# Altium footprint library CONN_TBLOCK_7P62.PcbLib: 76 footprints (part 4 of 5)
Each footprint in its own frame and in the unit in brackets; x right, y up, seen from the top. Pads: shape width x height; smd on the part's side, far side on the other; paste and mask are expansions set on the pad; w line width, h text height; cw(c..) or ccw(c..) is an arc to the next point about the centre after c.
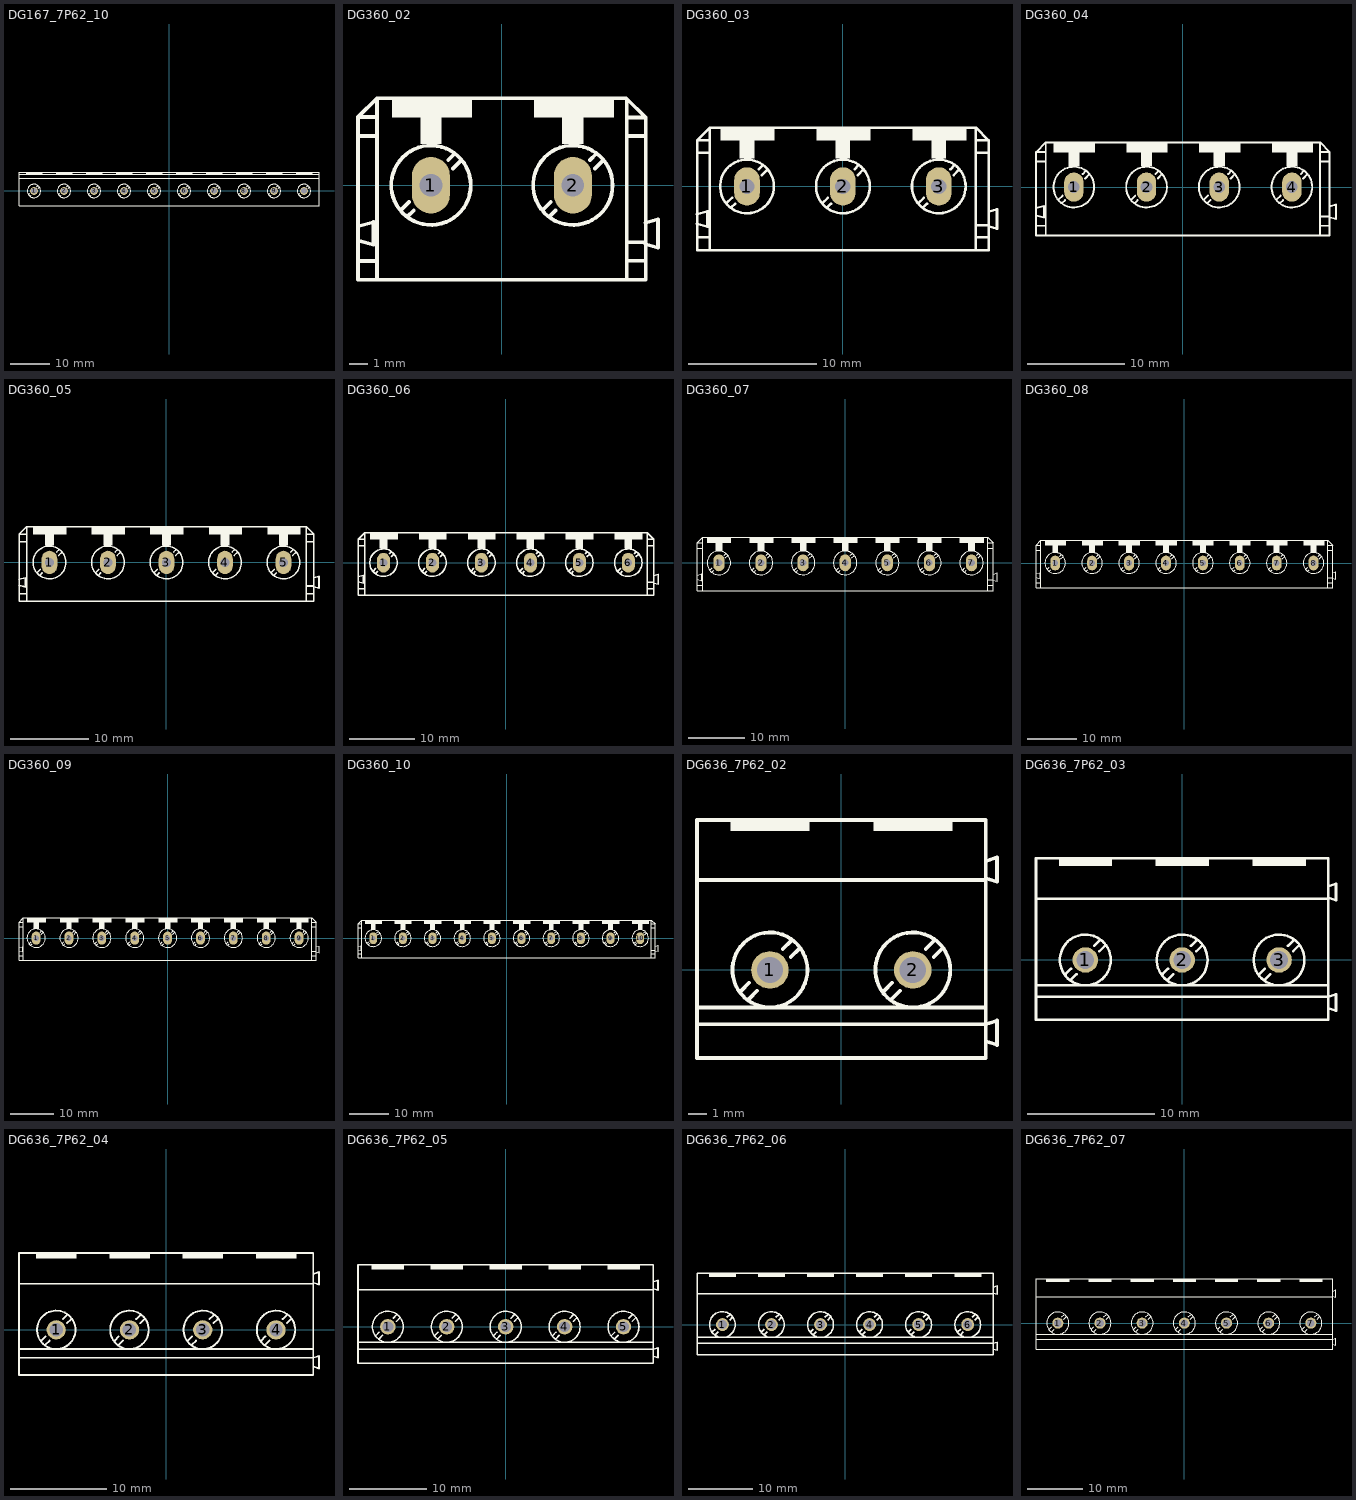
[diagram p3: the footprints below, top view; thin cyan lines are the x and y axes]

## DG167_7P62_10 [mm] "Terminal Screw, pitch 7.62mm, H 13.7mm"
height 13.7
pads (10):
  round 2 / inner round 2 / far side rect 2.2x3 hole 1.4: 1(-34.29,0)
  round 2 / inner round 2 / far side oval 2.2x3 hole 1.4: 2(-26.67,0) 3(-19.05,0) 4(-11.43,0) 5(-3.81,0) 6(3.81,0) 7(11.43,0) 8(19.05,0) 9(26.67,0) 10(34.29,0)
Top Overlay:
  circle w0.2: c-34.29,0 r1.7
  circle w0.2: c-26.67,0 r1.7
  circle w0.2: c-19.05,0 r1.7
  circle w0.2: c-11.43,0 r1.7
  circle w0.2: c-3.81,0 r1.7
  circle w0.2: c3.81,0 r1.7
  circle w0.2: c11.43,0 r1.7
  circle w0.2: c19.05,0 r1.7
  circle w0.2: c26.67,0 r1.7
  circle w0.2: c34.29,0 r1.7
  rectangle: -36.38,4.2 -32.18,4.8
  rectangle: -28.76,4.2 -24.56,4.8
  rectangle: -21.14,4.2 -16.94,4.8
  rectangle: -13.52,4.2 -9.32,4.8
  rectangle: -5.9,4.2 -1.7,4.8
  rectangle: 1.72,4.2 5.92,4.8
  rectangle: 9.34,4.2 13.54,4.8
  rectangle: 16.96,4.2 21.16,4.8
  rectangle: 24.58,4.2 28.78,4.8
  rectangle: 32.2,4.2 36.4,4.8
  lines w0.2: -38.1,3.2 38.1,3.2 ; -38.1,4.3 38.1,4.3 ; -35.634,-0.919 -35.351,-0.636 ; -35.209,-1.344 -34.926,-1.061 ; -33.654,1.061 -33.371,1.343 ; -33.229,0.636 -32.947,0.919 ; -28.014,-0.919 -27.731,-0.636 ; -27.589,-1.344 -27.306,-1.061 ; -26.034,1.061 -25.751,1.343 ; -25.609,0.636 -25.327,0.919 ; -20.394,-0.919 -20.111,-0.636 ; -19.969,-1.344 -19.686,-1.061 ; -18.414,1.061 -18.131,1.343 ; -17.989,0.636 -17.707,0.919 ; -12.774,-0.919 -12.491,-0.636 ; -12.349,-1.344 -12.066,-1.061 ; -10.794,1.061 -10.511,1.343 ; -10.369,0.636 -10.087,0.919 ; -5.154,-0.919 -4.871,-0.636 ; -4.729,-1.344 -4.446,-1.061 ; -3.174,1.061 -2.891,1.343 ; -2.749,0.636 -2.467,0.919 ; 2.466,-0.919 2.749,-0.636 ; 2.891,-1.344 3.174,-1.061 ; 4.446,1.061 4.729,1.343 ; 4.871,0.636 5.153,0.919 ; 10.086,-0.919 10.369,-0.636 ; 10.511,-1.344 10.794,-1.061 ; 12.066,1.061 12.349,1.343 ; 12.491,0.636 12.773,0.919 ; 17.706,-0.919 17.989,-0.636 ; 18.131,-1.344 18.414,-1.061 ; 19.686,1.061 19.969,1.343 ; 20.111,0.636 20.393,0.919 ; 25.326,-0.919 25.609,-0.636 ; 25.751,-1.344 26.034,-1.061 ; 27.306,1.061 27.589,1.343 ; 27.731,0.636 28.013,0.919 ; 32.946,-0.919 33.229,-0.636 ; 33.371,-1.344 33.654,-1.061 ; 34.926,1.061 35.209,1.343 ; 35.351,0.636 35.633,0.919 ; -38.1,-3.8 38.1,-3.8 38.1,4.8 -38.1,4.8 -38.1,-3.8
3D body "DG167-7.62-10P-12-00AH.STEP": height 13.7, standoff -4.5, extent -38.1,-3.8 38.1,4.8

## DG360_02 [mm] "Terminal B screw, Pitch 7.5mm, H 12.7mm"
height 12.7
pads (2):
  oval 2x3 hole 1.2: 1(-3.75,0) 2(3.75,0)
Top Overlay:
  circle w0.2: c3.75,0 r2.1
  circle w0.2: c-3.75,0 r2.1
  region: -4.3,3.6 -4.3,2.2 -3.2,2.2 -3.2,3.6
  region: -5.8,4.6 -5.8,3.6 -1.6,3.6 -1.6,4.6
  region: 3.2,3.6 3.2,2.2 4.3,2.2 4.3,3.6
  region: 1.7,4.6 1.7,3.6 5.9,3.6 5.9,4.6
  lines w0.2: -7.607,-2.925 -6.786,-3.149 -6.786,-1.951 -7.607,-2.175 ; -7.6,-4 -6.6,-4 ; -7.6,2.6 -6.6,2.6 ; -6.6,3.6 -7.6,3.6 ; -5.341,-1.308 -4.917,-0.884 ; -4.987,-1.662 -4.663,-1.337 ; -2.837,1.337 -2.513,1.662 ; -2.583,0.884 -2.159,1.308 ; 2.159,-1.308 2.583,-0.884 ; 2.513,-1.662 2.837,-1.337 ; 4.663,1.337 4.987,1.662 ; 4.917,0.884 5.341,1.308 ; 6.522,4.6 -6.6,4.6 ; 6.572,4.6 7.6,3.572 ; 6.6,-5 6.6,4.572 ; 6.602,-3.99 7.602,-3.99 ; 6.628,3.572 7.6,3.572 ; 6.65,-3.018 7.55,-3.018 ; 6.65,2.6 7.55,2.6 ; 7.55,-5 6.55,-5 -6.6,-5 ; 7.596,-3.113 8.25,-3.3 8.25,-1.8 7.596,-1.987 ; 7.6,-5 7.6,3.572 ; -7.6,3.6 -6.6,4.6 ; -7.6,3.6 -7.6,-5 -6.6,-5 ; -6.6,-5 -6.6,4.6
3D body "DG360-7.5-02P-12-00AH.STEP": height 12.7, standoff -4.6, extent -7.529,-4.953 8.171,4.547

## DG360_03 [mm] "Terminal B screw, Pitch 7.5mm, H 12.7mm"
height 15
pads (3):
  oval 2x3 hole 1.2: 1(-7.5,0) 2(0,0) 3(7.5,0)
Top Overlay:
  circle w0.2: c-7.5,0 r2.1
  circle w0.2: c0,0 r2.1
  circle w0.2: c7.5,0 r2.1
  region: -9.55,4.6 -9.55,3.6 -5.35,3.6 -5.35,4.6
  region: -8.05,3.6 -8.05,2.2 -6.95,2.2 -6.95,3.6
  region: 5.45,4.6 5.45,3.6 9.65,3.6 9.65,4.6
  region: 6.95,3.6 6.95,2.2 8.05,2.2 8.05,3.6
  region: -2.05,4.6 -2.05,3.6 2.15,3.6 2.15,4.6
  region: -0.55,3.6 -0.55,2.2 0.55,2.2 0.55,3.6
  lines w0.2: -11.407,-2.925 -10.586,-3.149 -10.586,-1.951 -11.407,-2.175 ; -11.402,-3.99 -10.402,-3.99 ; -11.4,2.628 -10.4,2.628 ; -10.4,3.6 -11.4,3.6 ; -9.091,-1.308 -8.667,-0.884 ; -8.737,-1.662 -8.413,-1.337 ; -6.587,1.337 -6.263,1.662 ; -6.333,0.884 -5.909,1.308 ; -1.591,-1.308 -1.167,-0.884 ; -1.237,-1.662 -0.913,-1.337 ; 0.913,1.337 1.237,1.662 ; 1.167,0.884 1.591,1.308 ; 5.909,-1.308 6.333,-0.884 ; 6.263,-1.662 6.587,-1.337 ; 8.413,1.337 8.737,1.662 ; 8.667,0.884 9.091,1.308 ; 10.4,2.628 11.4,2.628 ; 10.4,3.6 11.4,3.6 ; 10.402,-3.99 11.402,-3.99 ; 10.45,-3.018 11.35,-3.018 ; 11.396,-3.113 12.05,-3.3 12.05,-1.8 11.396,-1.987 ; -11.4,3.6 -11.4,-5 -10.4,-5 ; -11.4,3.6 -10.4,4.6 ; -10.4,-5 10.4,-5 ; -10.4,-5 -10.4,4.6 ; -10.4,4.6 10.4,4.6 ; 10.4,-5 11.4,-5 11.4,3.6 ; 10.4,-5 10.4,4.6 ; 10.4,4.6 11.4,3.6
3D body "DG360-7.5-03P-12-00AH.STEP": height 12.7, standoff -4.6, extent -11.212,-4.928 11.988,4.572

## DG360_04 [mm] "Terminal B screw, Pitch 7.5mm, H 12.7mm"
height 15
pads (4):
  oval 2x3 hole 1.2: 1(-11.25,0) 2(-3.75,0) 3(3.75,0) 4(11.25,0)
Top Overlay:
  circle w0.2: c11.25,0 r2.1
  circle w0.2: c3.75,0 r2.1
  circle w0.2: c-3.75,0 r2.1
  circle w0.2: c-11.25,0 r2.1
  region: 3.2,3.6 3.2,2.2 4.3,2.2 4.3,3.6
  region: 1.7,4.6 1.7,3.6 5.9,3.6 5.9,4.6
  region: 10.7,3.6 10.7,2.2 11.8,2.2 11.8,3.6
  region: 9.2,4.6 9.2,3.6 13.4,3.6 13.4,4.6
  region: -11.8,3.6 -11.8,2.2 -10.7,2.2 -10.7,3.6
  region: -13.3,4.6 -13.3,3.6 -9.1,3.6 -9.1,4.6
  region: -4.3,3.6 -4.3,2.2 -3.2,2.2 -3.2,3.6
  region: -5.8,4.6 -5.8,3.6 -1.6,3.6 -1.6,4.6
  lines w0.2: -15.157,-2.925 -14.336,-3.149 -14.336,-1.951 -15.157,-2.175 ; -15.152,-3.99 -14.152,-3.99 ; -15.15,2.628 -14.15,2.628 ; -14.15,3.6 -15.15,3.6 ; -12.841,-1.308 -12.417,-0.884 ; -12.487,-1.662 -12.163,-1.337 ; -10.337,1.337 -10.013,1.662 ; -10.083,0.884 -9.659,1.308 ; -5.341,-1.308 -4.917,-0.884 ; -4.987,-1.662 -4.663,-1.337 ; -2.837,1.337 -2.513,1.662 ; -2.583,0.884 -2.159,1.308 ; 2.159,-1.308 2.583,-0.884 ; 2.513,-1.662 2.837,-1.337 ; 4.663,1.337 4.987,1.662 ; 4.917,0.884 5.341,1.308 ; 9.659,-1.308 10.083,-0.884 ; 10.013,-1.662 10.337,-1.337 ; 12.163,1.337 12.487,1.662 ; 12.417,0.884 12.841,1.308 ; 14.15,2.628 15.15,2.628 ; 14.15,3.6 15.15,3.6 ; 14.152,-3.99 15.152,-3.99 ; 14.2,-3.018 15.1,-3.018 ; 15.146,-3.113 15.8,-3.3 15.8,-1.8 15.146,-1.987 ; -15.15,3.6 -14.15,4.6 ; -15.15,3.6 -15.15,-5 -14.15,-5 ; -14.15,-5 -14.15,4.6 ; -14.15,-5 14.15,-5 ; -14.15,4.6 14.15,4.6 ; 14.15,-5 14.15,4.6 ; 14.15,-5 15.15,-5 15.15,3.6 ; 14.15,4.6 15.15,3.6
3D body "DG360-7.5-04P-12-00AH.STEP": height 12.7, standoff -4.6, extent -14.94,-5.08 15.76,4.42

## DG360_05 [mm] "Terminal B screw, Pitch 7.5mm, H 12.7mm"
height 15
pads (5):
  oval 2x3 hole 1.2: 1(-15,0) 2(-7.5,0) 3(0,0) 4(7.5,0) 5(15,0)
Top Overlay:
  circle w0.2: c15,0 r2.1
  circle w0.2: c7.5,0 r2.1
  circle w0.2: c0,0 r2.1
  circle w0.2: c-7.5,0 r2.1
  circle w0.2: c-15,0 r2.1
  region: 6.95,3.6 6.95,2.2 8.05,2.2 8.05,3.6
  region: 5.45,4.6 5.45,3.6 9.65,3.6 9.65,4.6
  region: 14.45,3.6 14.45,2.2 15.55,2.2 15.55,3.6
  region: 12.95,4.6 12.95,3.6 17.15,3.6 17.15,4.6
  region: -8.05,3.6 -8.05,2.2 -6.95,2.2 -6.95,3.6
  region: -9.55,4.6 -9.55,3.6 -5.35,3.6 -5.35,4.6
  region: -0.55,3.6 -0.55,2.2 0.55,2.2 0.55,3.6
  region: -2.05,4.6 -2.05,3.6 2.15,3.6 2.15,4.6
  region: -15.55,3.6 -15.55,2.2 -14.45,2.2 -14.45,3.6
  region: -17.05,4.6 -17.05,3.6 -12.85,3.6 -12.85,4.6
  lines w0.2: -18.907,-2.925 -18.086,-3.149 -18.086,-1.951 -18.907,-2.175 ; -18.902,-3.99 -17.902,-3.99 ; -18.9,2.628 -17.9,2.628 ; -17.9,3.6 -18.9,3.6 ; -16.591,-1.308 -16.167,-0.884 ; -16.237,-1.662 -15.913,-1.337 ; -14.087,1.337 -13.763,1.662 ; -13.833,0.884 -13.409,1.308 ; -9.091,-1.308 -8.667,-0.884 ; -8.737,-1.662 -8.413,-1.337 ; -6.587,1.337 -6.263,1.662 ; -6.333,0.884 -5.909,1.308 ; -1.591,-1.308 -1.167,-0.884 ; -1.237,-1.662 -0.913,-1.337 ; 0.913,1.337 1.237,1.662 ; 1.167,0.884 1.591,1.308 ; 5.909,-1.308 6.333,-0.884 ; 6.263,-1.662 6.587,-1.337 ; 8.413,1.337 8.737,1.662 ; 8.667,0.884 9.091,1.308 ; 13.409,-1.308 13.833,-0.884 ; 13.763,-1.662 14.087,-1.337 ; 15.913,1.337 16.237,1.662 ; 16.167,0.884 16.591,1.308 ; 17.9,2.628 18.9,2.628 ; 17.9,3.6 18.9,3.6 ; 17.902,-3.99 18.902,-3.99 ; 17.95,-3.018 18.85,-3.018 ; 18.896,-3.113 19.55,-3.3 19.55,-1.8 18.896,-1.987 ; -18.9,3.6 -17.9,4.6 ; -18.9,3.6 -18.9,-5 -17.9,-5 ; -17.9,-5 -17.9,4.6 ; -17.9,-5 17.9,-5 ; -17.9,4.6 17.9,4.6 ; 17.9,-5 17.9,4.6 ; 17.9,-5 18.9,-5 18.9,3.6 ; 17.9,4.6 18.9,3.6
3D body "DG360-7.5-05P-12-00AH.STEP": height 12.7, standoff -4.6, extent -18.832,-4.928 19.368,4.572

## DG360_06 [mm] "Terminal B screw, Pitch 7.5mm, H 12.7mm"
height 15
pads (6):
  oval 2x3 hole 1.2: 1(-18.75,0) 2(-11.25,0) 3(-3.75,0) 4(3.75,0) 5(11.25,0) 6(18.75,0)
Top Overlay:
  circle w0.2: c18.75,0 r2.1
  circle w0.2: c11.25,0 r2.1
  circle w0.2: c3.75,0 r2.1
  circle w0.2: c-3.75,0 r2.1
  circle w0.2: c-11.25,0 r2.1
  circle w0.2: c-18.75,0 r2.1
  region: 10.7,3.6 10.7,2.2 11.8,2.2 11.8,3.6
  region: 9.2,4.6 9.2,3.6 13.4,3.6 13.4,4.6
  region: 18.2,3.6 18.2,2.2 19.3,2.2 19.3,3.6
  region: 16.7,4.6 16.7,3.6 20.9,3.6 20.9,4.6
  region: -4.3,3.6 -4.3,2.2 -3.2,2.2 -3.2,3.6
  region: -5.8,4.6 -5.8,3.6 -1.6,3.6 -1.6,4.6
  region: 3.2,3.6 3.2,2.2 4.3,2.2 4.3,3.6
  region: 1.7,4.6 1.7,3.6 5.9,3.6 5.9,4.6
  region: -19.3,3.6 -19.3,2.2 -18.2,2.2 -18.2,3.6
  region: -20.8,4.6 -20.8,3.6 -16.6,3.6 -16.6,4.6
  region: -11.8,3.6 -11.8,2.2 -10.7,2.2 -10.7,3.6
  region: -13.3,4.6 -13.3,3.6 -9.1,3.6 -9.1,4.6
  lines w0.2: -22.657,-2.925 -21.836,-3.149 -21.836,-1.951 -22.657,-2.175 ; -22.652,-3.99 -21.652,-3.99 ; -22.65,2.628 -21.65,2.628 ; -21.65,3.6 -22.65,3.6 ; -20.341,-1.308 -19.917,-0.884 ; -19.987,-1.662 -19.663,-1.337 ; -17.837,1.337 -17.513,1.662 ; -17.583,0.884 -17.159,1.308 ; -12.841,-1.308 -12.417,-0.884 ; -12.487,-1.662 -12.163,-1.337 ; -10.337,1.337 -10.013,1.662 ; -10.083,0.884 -9.659,1.308 ; -5.341,-1.308 -4.917,-0.884 ; -4.987,-1.662 -4.663,-1.337 ; -2.837,1.337 -2.513,1.662 ; -2.583,0.884 -2.159,1.308 ; 2.159,-1.308 2.583,-0.884 ; 2.513,-1.662 2.837,-1.337 ; 4.663,1.337 4.987,1.662 ; 4.917,0.884 5.341,1.308 ; 9.659,-1.308 10.083,-0.884 ; 10.013,-1.662 10.337,-1.337 ; 12.163,1.337 12.487,1.662 ; 12.417,0.884 12.841,1.308 ; 17.159,-1.308 17.583,-0.884 ; 17.513,-1.662 17.837,-1.337 ; 19.663,1.337 19.987,1.662 ; 19.917,0.884 20.341,1.308 ; 21.65,2.628 22.65,2.628 ; 21.65,3.6 22.65,3.6 ; 21.652,-3.99 22.652,-3.99 ; 21.7,-3.018 22.6,-3.018 ; 22.646,-3.113 23.3,-3.3 23.3,-1.8 22.646,-1.987 ; -22.65,3.6 -21.65,4.6 ; -22.65,3.6 -22.65,-5 -21.65,-5 ; -21.65,-5 -21.65,4.6 ; -21.65,-5 21.65,-5 ; -21.65,4.6 21.65,4.6 ; 21.65,-5 21.65,4.6 ; 21.65,-5 22.65,-5 22.65,3.6 ; 21.65,4.6 22.65,3.6
3D body "DG360-7.5-06P-12-00AH.STEP": height 12.7, standoff -4.6, extent -22.515,-5.055 23.185,4.445

## DG360_07 [mm] "Terminal B screw, Pitch 7.5mm, H 12.7mm"
height 15
pads (7):
  oval 2x3 hole 1.2: 1(-22.5,0) 2(-15,0) 3(-7.5,0) 4(0,0) 5(7.5,0) 6(15,0) 7(22.5,0)
Top Overlay:
  circle w0.2: c-22.5,0 r2.1
  circle w0.2: c-15,0 r2.1
  circle w0.2: c-7.5,0 r2.1
  circle w0.2: c0,0 r2.1
  circle w0.2: c7.5,0 r2.1
  circle w0.2: c15,0 r2.1
  circle w0.2: c22.5,0 r2.1
  region: -24.55,4.6 -24.55,3.6 -20.35,3.6 -20.35,4.6
  region: -23.05,3.6 -23.05,2.2 -21.95,2.2 -21.95,3.6
  region: -9.55,4.6 -9.55,3.6 -5.35,3.6 -5.35,4.6
  region: -8.05,3.6 -8.05,2.2 -6.95,2.2 -6.95,3.6
  region: -17.05,4.6 -17.05,3.6 -12.85,3.6 -12.85,4.6
  region: -15.55,3.6 -15.55,2.2 -14.45,2.2 -14.45,3.6
  region: 5.45,4.6 5.45,3.6 9.65,3.6 9.65,4.6
  region: 6.95,3.6 6.95,2.2 8.05,2.2 8.05,3.6
  region: -2.05,4.6 -2.05,3.6 2.15,3.6 2.15,4.6
  region: -0.55,3.6 -0.55,2.2 0.55,2.2 0.55,3.6
  region: 20.45,4.6 20.45,3.6 24.65,3.6 24.65,4.6
  region: 21.95,3.6 21.95,2.2 23.05,2.2 23.05,3.6
  region: 12.95,4.6 12.95,3.6 17.15,3.6 17.15,4.6
  region: 14.45,3.6 14.45,2.2 15.55,2.2 15.55,3.6
  lines w0.2: -26.407,-2.925 -25.586,-3.149 -25.586,-1.951 -26.407,-2.175 ; -26.402,-3.99 -25.402,-3.99 ; -26.4,2.628 -25.4,2.628 ; -25.4,3.6 -26.4,3.6 ; -24.091,-1.308 -23.667,-0.884 ; -23.737,-1.662 -23.413,-1.337 ; -21.587,1.337 -21.263,1.662 ; -21.333,0.884 -20.909,1.308 ; -16.591,-1.308 -16.167,-0.884 ; -16.237,-1.662 -15.913,-1.337 ; -14.087,1.337 -13.763,1.662 ; -13.833,0.884 -13.409,1.308 ; -9.091,-1.308 -8.667,-0.884 ; -8.737,-1.662 -8.413,-1.337 ; -6.587,1.337 -6.263,1.662 ; -6.333,0.884 -5.909,1.308 ; -1.591,-1.308 -1.167,-0.884 ; -1.237,-1.662 -0.913,-1.337 ; 0.913,1.337 1.237,1.662 ; 1.167,0.884 1.591,1.308 ; 5.909,-1.308 6.333,-0.884 ; 6.263,-1.662 6.587,-1.337 ; 8.413,1.337 8.737,1.662 ; 8.667,0.884 9.091,1.308 ; 13.409,-1.308 13.833,-0.884 ; 13.763,-1.662 14.087,-1.337 ; 15.913,1.337 16.237,1.662 ; 16.167,0.884 16.591,1.308 ; 20.909,-1.308 21.333,-0.884 ; 21.263,-1.662 21.587,-1.337 ; 23.413,1.337 23.737,1.662 ; 23.667,0.884 24.091,1.308 ; 25.4,2.628 26.4,2.628 ; 25.4,3.6 26.4,3.6 ; 25.402,-3.99 26.402,-3.99 ; 25.45,-3.018 26.35,-3.018 ; 26.396,-3.113 27.05,-3.3 27.05,-1.8 26.396,-1.987 ; -26.4,3.6 -26.4,-5 -25.4,-5 ; -26.4,3.6 -25.4,4.6 ; -25.4,-5 25.4,-5 ; -25.4,-5 -25.4,4.6 ; -25.4,4.6 25.4,4.6 ; 25.4,-5 26.4,-5 26.4,3.6 ; 25.4,-5 25.4,4.6 ; 25.4,4.6 26.4,3.6
3D body "DG360-7.5-07P-12-00AH.STEP": height 12.7, standoff -4.6, extent -26.325,-4.953 26.875,4.547

## DG360_08 [mm] "Terminal B screw, Pitch 7.5mm, H 12.7mm"
height 15
pads (8):
  oval 2x3 hole 1.2: 1(-26.25,0) 2(-18.75,0) 3(-11.25,0) 4(-3.75,0) 5(3.75,0) 6(11.25,0) 7(18.75,0) 8(26.25,0)
Top Overlay:
  circle w0.2: c-26.25,0 r2.1
  circle w0.2: c-18.75,0 r2.1
  circle w0.2: c-11.25,0 r2.1
  circle w0.2: c-3.75,0 r2.1
  circle w0.2: c3.75,0 r2.1
  circle w0.2: c11.25,0 r2.1
  circle w0.2: c18.75,0 r2.1
  circle w0.2: c26.25,0 r2.1
  region: -20.8,4.6 -20.8,3.6 -16.6,3.6 -16.6,4.6
  region: -19.3,3.6 -19.3,2.2 -18.2,2.2 -18.2,3.6
  region: -28.3,4.6 -28.3,3.6 -24.1,3.6 -24.1,4.6
  region: -26.8,3.6 -26.8,2.2 -25.7,2.2 -25.7,3.6
  region: -5.8,4.6 -5.8,3.6 -1.6,3.6 -1.6,4.6
  region: -4.3,3.6 -4.3,2.2 -3.2,2.2 -3.2,3.6
  region: -13.3,4.6 -13.3,3.6 -9.1,3.6 -9.1,4.6
  region: -11.8,3.6 -11.8,2.2 -10.7,2.2 -10.7,3.6
  region: 9.2,4.6 9.2,3.6 13.4,3.6 13.4,4.6
  region: 10.7,3.6 10.7,2.2 11.8,2.2 11.8,3.6
  region: 1.7,4.6 1.7,3.6 5.9,3.6 5.9,4.6
  region: 3.2,3.6 3.2,2.2 4.3,2.2 4.3,3.6
  region: 24.2,4.6 24.2,3.6 28.4,3.6 28.4,4.6
  region: 25.7,3.6 25.7,2.2 26.8,2.2 26.8,3.6
  region: 16.7,4.6 16.7,3.6 20.9,3.6 20.9,4.6
  region: 18.2,3.6 18.2,2.2 19.3,2.2 19.3,3.6
  lines w0.2: -30.157,-2.925 -29.336,-3.149 -29.336,-1.951 -30.157,-2.175 ; -30.152,-3.99 -29.152,-3.99 ; -30.15,2.628 -29.15,2.628 ; -29.15,3.6 -30.15,3.6 ; -27.841,-1.308 -27.417,-0.884 ; -27.487,-1.662 -27.163,-1.337 ; -25.337,1.337 -25.013,1.662 ; -25.083,0.884 -24.659,1.308 ; -20.341,-1.308 -19.917,-0.884 ; -19.987,-1.662 -19.663,-1.337 ; -17.837,1.337 -17.513,1.662 ; -17.583,0.884 -17.159,1.308 ; -12.841,-1.308 -12.417,-0.884 ; -12.487,-1.662 -12.163,-1.337 ; -10.337,1.337 -10.013,1.662 ; -10.083,0.884 -9.659,1.308 ; -5.341,-1.308 -4.917,-0.884 ; -4.987,-1.662 -4.663,-1.337 ; -2.837,1.337 -2.513,1.662 ; -2.583,0.884 -2.159,1.308 ; 2.159,-1.308 2.583,-0.884 ; 2.513,-1.662 2.837,-1.337 ; 4.663,1.337 4.987,1.662 ; 4.917,0.884 5.341,1.308 ; 9.659,-1.308 10.083,-0.884 ; 10.013,-1.662 10.337,-1.337 ; 12.163,1.337 12.487,1.662 ; 12.417,0.884 12.841,1.308 ; 17.159,-1.308 17.583,-0.884 ; 17.513,-1.662 17.837,-1.337 ; 19.663,1.337 19.987,1.662 ; 19.917,0.884 20.341,1.308 ; 24.659,-1.308 25.083,-0.884 ; 25.013,-1.662 25.337,-1.337 ; 27.163,1.337 27.487,1.662 ; 27.417,0.884 27.841,1.308 ; 29.15,2.628 30.15,2.628 ; 29.15,3.6 30.15,3.6 ; 29.152,-3.99 30.152,-3.99 ; 29.2,-3.018 30.1,-3.018 ; 30.146,-3.113 30.8,-3.3 30.8,-1.8 30.146,-1.987 ; -30.15,3.6 -30.15,-5 -29.15,-5 ; -30.15,3.6 -29.15,4.6 ; -29.15,-5 29.15,-5 ; -29.15,-5 -29.15,4.6 ; -29.15,4.6 29.15,4.6 ; 29.15,-5 30.15,-5 30.15,3.6 ; 29.15,-5 29.15,4.6 ; 29.15,4.6 30.15,3.6
3D body "DG360-7.5-08P-12-00AH.STEP": height 12.7, standoff -4.6, extent -30.008,-4.928 30.692,4.572

## DG360_09 [mm] "Terminal B screw, Pitch 7.5mm, H 12.7mm"
height 15
pads (9):
  oval 2x3 hole 1.2: 1(-30,0) 2(-22.5,0) 3(-15,0) 4(-7.5,0) 5(0,0) 6(7.5,0) 7(15,0) 8(22.5,0) 9(30,0)
Top Overlay:
  circle w0.2: c-30,0 r2.1
  circle w0.2: c-22.5,0 r2.1
  circle w0.2: c-15,0 r2.1
  circle w0.2: c-7.5,0 r2.1
  circle w0.2: c0,0 r2.1
  circle w0.2: c7.5,0 r2.1
  circle w0.2: c15,0 r2.1
  circle w0.2: c22.5,0 r2.1
  circle w0.2: c30,0 r2.1
  region: -32.05,4.6 -32.05,3.6 -27.85,3.6 -27.85,4.6
  region: -30.55,3.6 -30.55,2.2 -29.45,2.2 -29.45,3.6
  region: -17.05,4.6 -17.05,3.6 -12.85,3.6 -12.85,4.6
  region: -15.55,3.6 -15.55,2.2 -14.45,2.2 -14.45,3.6
  region: -24.55,4.6 -24.55,3.6 -20.35,3.6 -20.35,4.6
  region: -23.05,3.6 -23.05,2.2 -21.95,2.2 -21.95,3.6
  region: -2.05,4.6 -2.05,3.6 2.15,3.6 2.15,4.6
  region: -0.55,3.6 -0.55,2.2 0.55,2.2 0.55,3.6
  region: -9.55,4.6 -9.55,3.6 -5.35,3.6 -5.35,4.6
  region: -8.05,3.6 -8.05,2.2 -6.95,2.2 -6.95,3.6
  region: 12.95,4.6 12.95,3.6 17.15,3.6 17.15,4.6
  region: 14.45,3.6 14.45,2.2 15.55,2.2 15.55,3.6
  region: 5.45,4.6 5.45,3.6 9.65,3.6 9.65,4.6
  region: 6.95,3.6 6.95,2.2 8.05,2.2 8.05,3.6
  region: 27.95,4.6 27.95,3.6 32.15,3.6 32.15,4.6
  region: 29.45,3.6 29.45,2.2 30.55,2.2 30.55,3.6
  region: 20.45,4.6 20.45,3.6 24.65,3.6 24.65,4.6
  region: 21.95,3.6 21.95,2.2 23.05,2.2 23.05,3.6
  lines w0.2: -33.907,-2.925 -33.086,-3.149 -33.086,-1.951 -33.907,-2.175 ; -33.902,-3.99 -32.902,-3.99 ; -33.9,2.628 -32.9,2.628 ; -32.9,3.6 -33.9,3.6 ; -31.591,-1.308 -31.167,-0.884 ; -31.237,-1.662 -30.913,-1.337 ; -29.087,1.337 -28.763,1.662 ; -28.833,0.884 -28.409,1.308 ; -24.091,-1.308 -23.667,-0.884 ; -23.737,-1.662 -23.413,-1.337 ; -21.587,1.337 -21.263,1.662 ; -21.333,0.884 -20.909,1.308 ; -16.591,-1.308 -16.167,-0.884 ; -16.237,-1.662 -15.913,-1.337 ; -14.087,1.337 -13.763,1.662 ; -13.833,0.884 -13.409,1.308 ; -9.091,-1.308 -8.667,-0.884 ; -8.737,-1.662 -8.413,-1.337 ; -6.587,1.337 -6.263,1.662 ; -6.333,0.884 -5.909,1.308 ; -1.591,-1.308 -1.167,-0.884 ; -1.237,-1.662 -0.913,-1.337 ; 0.913,1.337 1.237,1.662 ; 1.167,0.884 1.591,1.308 ; 5.909,-1.308 6.333,-0.884 ; 6.263,-1.662 6.587,-1.337 ; 8.413,1.337 8.737,1.662 ; 8.667,0.884 9.091,1.308 ; 13.409,-1.308 13.833,-0.884 ; 13.763,-1.662 14.087,-1.337 ; 15.913,1.337 16.237,1.662 ; 16.167,0.884 16.591,1.308 ; 20.909,-1.308 21.333,-0.884 ; 21.263,-1.662 21.587,-1.337 ; 23.413,1.337 23.737,1.662 ; 23.667,0.884 24.091,1.308 ; 28.409,-1.308 28.833,-0.884 ; 28.763,-1.662 29.087,-1.337 ; 30.913,1.337 31.237,1.662 ; 31.167,0.884 31.591,1.308 ; 32.9,2.628 33.9,2.628 ; 32.9,3.6 33.9,3.6 ; 32.902,-3.99 33.902,-3.99 ; 32.95,-3.018 33.85,-3.018 ; 33.896,-3.113 34.55,-3.3 34.55,-1.8 33.896,-1.987 ; -33.9,3.6 -33.9,-5 -32.9,-5 ; -33.9,3.6 -32.9,4.6 ; -32.9,-5 32.9,-5 ; -32.9,-5 -32.9,4.6 ; -32.9,4.6 32.9,4.6 ; 32.9,-5 33.9,-5 33.9,3.6 ; 32.9,-5 32.9,4.6 ; 32.9,4.6 33.9,3.6
3D body "DG360-7.5-09P-12-00AH.STEP": height 12.7, standoff -4.6, extent -33.691,-4.955 34.509,4.545

## DG360_10 [mm] "Terminal B screw, Pitch 7.5mm, H 12.7mm"
height 15
pads (10):
  oval 2x3 hole 1.2: 1(-33.75,0) 2(-26.25,0) 3(-18.75,0) 4(-11.25,0) 5(-3.75,0) 6(3.75,0) 7(11.25,0) 8(18.75,0) 9(26.25,0) 10(33.75,0)
Top Overlay:
  drawing of 93 lines, arcs and shapes, not listed
3D body "DG360-7.5-10P-12-00AH.STEP": height 12.7, standoff -4.6, extent -37.501,-4.928 38.199,4.572

## DG636_7P62_02 [mm] "Terminal Screw, pitch 7.62mm, H 21.5mm"
height 21.5
pads (2):
  round 2 / inner round 2 / far side rect 2.2x3 hole 1.4: 1(-3.81,0)
  round 2 / inner round 2 / far side oval 2.2x3 hole 1.4: 2(3.81,0)
Top Overlay:
  circle w0.2: c3.81,0 r2
  circle w0.2: c-3.81,0 r2
  rectangle: 1.72,7.4 5.92,8
  rectangle: -5.9,7.4 -1.7,8
  lines w0.2: -7.7,-2.9 7.7,-2.9 8.3,-2.7 8.3,-4 7.7,-3.8 ; -7.7,-2 7.7,-2 ; -7.7,4.8 7.7,4.8 ; -5.353,-1.119 -4.922,-0.688 ; -4.929,-1.543 -4.498,-1.112 ; -3.122,1.112 -2.691,1.543 ; -2.698,0.688 -2.267,1.119 ; 2.267,-1.119 2.698,-0.688 ; 2.691,-1.543 3.122,-1.112 ; 4.498,1.112 4.929,1.543 ; 4.922,0.688 5.353,1.119 ; 7.7,4.9 8.3,4.7 8.3,6 7.7,5.8 ; -7.7,-4.7 7.7,-4.7 7.7,8 -7.7,8 -7.7,-4.7
3D body "DG636-7.62-02P.stp": height 21.55, standoff -4.95, extent -7.61,-4.6 8.21,7.9

## DG636_7P62_03 [mm] "Terminal Screw, pitch 7.62mm, H 21.5mm"
height 21.5
pads (3):
  round 2 / inner round 2 / far side rect 2.2x3 hole 1.4: 1(-7.62,0)
  round 2 / inner round 2 / far side oval 2.2x3 hole 1.4: 2(0,0) 3(7.62,0)
Top Overlay:
  circle w0.2: c7.62,0 r2
  circle w0.2: c-7.62,0 r2
  circle w0.2: c0,0 r2
  rectangle: 5.53,7.4 9.73,8
  rectangle: -9.71,7.4 -5.51,8
  rectangle: -2.09,7.4 2.11,8
  lines w0.2: -11.5,-2.9 11.5,-2.9 12.1,-2.7 12.1,-4 11.5,-3.8 ; -11.5,-2 11.5,-2 ; -11.5,4.8 11.5,4.8 ; -9.163,-1.119 -8.732,-0.688 ; -8.739,-1.543 -8.308,-1.112 ; -6.932,1.112 -6.501,1.543 ; -6.508,0.688 -6.077,1.119 ; -1.543,-1.119 -1.112,-0.688 ; -1.119,-1.543 -0.688,-1.112 ; 0.688,1.112 1.119,1.543 ; 1.112,0.688 1.543,1.119 ; 6.077,-1.119 6.508,-0.688 ; 6.501,-1.543 6.932,-1.112 ; 8.308,1.112 8.739,1.543 ; 8.732,0.688 9.163,1.119 ; 11.5,4.9 12.1,4.7 12.1,6 11.5,5.8 ; -11.5,-4.7 -11.5,8 11.5,8 11.5,-4.7 -11.5,-4.7
3D body "DG636-7.62-03P.stp": height 21.55, standoff -4.95, extent -11.42,-4.6 12.02,7.9

## DG636_7P62_04 [mm] "Terminal Screw, pitch 7.62mm, H 21.5mm"
height 21.5
pads (4):
  round 2 / inner round 2 / far side rect 2.2x3 hole 1.4: 1(-11.43,0)
  round 2 / inner round 2 / far side oval 2.2x3 hole 1.4: 2(-3.81,0) 3(3.81,0) 4(11.43,0)
Top Overlay:
  circle w0.2: c-11.43,0 r2
  circle w0.2: c-3.81,0 r2
  circle w0.2: c3.81,0 r2
  circle w0.2: c11.43,0 r2
  rectangle: -13.52,7.4 -9.32,8
  rectangle: -5.9,7.4 -1.7,8
  rectangle: 1.72,7.4 5.92,8
  rectangle: 9.34,7.4 13.54,8
  lines w0.2: -15.3,-2.9 15.3,-2.9 15.9,-2.7 15.9,-4 15.3,-3.8 ; -15.3,-2 15.3,-2 ; -15.3,4.8 15.3,4.8 ; -12.973,-1.119 -12.542,-0.688 ; -12.549,-1.543 -12.118,-1.112 ; -10.742,1.112 -10.311,1.543 ; -10.318,0.688 -9.887,1.119 ; -5.353,-1.119 -4.922,-0.688 ; -4.929,-1.543 -4.498,-1.112 ; -3.122,1.112 -2.691,1.543 ; -2.698,0.688 -2.267,1.119 ; 2.267,-1.119 2.698,-0.688 ; 2.691,-1.543 3.122,-1.112 ; 4.498,1.112 4.929,1.543 ; 4.922,0.688 5.353,1.119 ; 9.887,-1.119 10.318,-0.688 ; 10.311,-1.543 10.742,-1.112 ; 12.118,1.112 12.549,1.543 ; 12.542,0.688 12.973,1.119 ; 15.3,4.9 15.9,4.7 15.9,6 15.3,5.8 ; -15.3,-4.7 15.3,-4.7 15.3,8 -15.3,8 -15.3,-4.7
3D body "DG636-7.62-02P.stp": height 21.55, standoff -4.95, extent -15.23,-4.6 0.59,7.9
3D body "DG636-7.62-02P.stp": height 21.55, standoff -4.95, extent 0.01,-4.6 15.83,7.9

## DG636_7P62_05 [mm] "Terminal Screw, pitch 7.62mm, H 21.5mm"
height 21.5
pads (5):
  round 2 / inner round 2 / far side rect 2.2x3 hole 1.4: 1(-15.24,0)
  round 2 / inner round 2 / far side oval 2.2x3 hole 1.4: 2(-7.62,0) 3(0,0) 4(7.62,0) 5(15.24,0)
Top Overlay:
  circle w0.2: c15.24,0 r2
  circle w0.2: c7.62,0 r2
  circle w0.2: c0,0 r2
  circle w0.2: c-7.62,0 r2
  circle w0.2: c-15.24,0 r2
  rectangle: 13.15,7.4 17.35,8
  rectangle: 5.53,7.4 9.73,8
  rectangle: -2.09,7.4 2.11,8
  rectangle: -9.71,7.4 -5.51,8
  rectangle: -17.33,7.4 -13.13,8
  lines w0.2: -19.1,-2.9 19.1,-2.9 19.7,-2.7 19.7,-4 19.1,-3.8 ; -19.1,-2 19.1,-2 ; -19.1,4.8 19.1,4.8 ; -16.783,-1.119 -16.352,-0.688 ; -16.359,-1.543 -15.928,-1.112 ; -14.552,1.112 -14.121,1.543 ; -14.128,0.688 -13.697,1.119 ; -9.163,-1.119 -8.732,-0.688 ; -8.739,-1.543 -8.308,-1.112 ; -6.932,1.112 -6.501,1.543 ; -6.508,0.688 -6.077,1.119 ; -1.543,-1.119 -1.112,-0.688 ; -1.119,-1.543 -0.688,-1.112 ; 0.688,1.112 1.119,1.543 ; 1.112,0.688 1.543,1.119 ; 6.077,-1.119 6.508,-0.688 ; 6.501,-1.543 6.932,-1.112 ; 8.308,1.112 8.739,1.543 ; 8.732,0.688 9.163,1.119 ; 13.697,-1.119 14.128,-0.688 ; 14.121,-1.543 14.552,-1.112 ; 15.928,1.112 16.359,1.543 ; 16.352,0.688 16.783,1.119 ; 19.1,4.9 19.7,4.7 19.7,6 19.1,5.8 ; -19.1,-4.7 -19.1,8 19.1,8 19.1,-4.7 -19.1,-4.7
3D body "DG636-7.62-03P.stp": height 21.55, standoff -4.95, extent -3.8,-4.6 19.64,7.9
3D body "DG636-7.62-02P.stp": height 21.55, standoff -4.95, extent -19.04,-4.6 -3.22,7.9

## DG636_7P62_06 [mm] "Terminal Screw, pitch 7.62mm, H 21.5mm"
height 21.5
pads (6):
  round 2 / inner round 2 / far side rect 2.2x3 hole 1.4: 1(-19.05,0)
  round 2 / inner round 2 / far side oval 2.2x3 hole 1.4: 2(-11.43,0) 3(-3.81,0) 4(3.81,0) 5(11.43,0) 6(19.05,0)
Top Overlay:
  circle w0.2: c19.05,0 r2
  circle w0.2: c11.43,0 r2
  circle w0.2: c3.81,0 r2
  circle w0.2: c-3.81,0 r2
  circle w0.2: c-11.43,0 r2
  circle w0.2: c-19.05,0 r2
  rectangle: 16.96,7.4 21.16,8
  rectangle: 9.34,7.4 13.54,8
  rectangle: 1.72,7.4 5.92,8
  rectangle: -5.9,7.4 -1.7,8
  rectangle: -13.52,7.4 -9.32,8
  rectangle: -21.14,7.4 -16.94,8
  lines w0.2: -23,-2.9 23,-2.9 23.6,-2.7 23.6,-4 23,-3.8 ; -23,-2 23,-2 ; -23,4.8 23,4.8 ; -20.593,-1.119 -20.162,-0.688 ; -20.169,-1.543 -19.738,-1.112 ; -18.362,1.112 -17.931,1.543 ; -17.938,0.688 -17.507,1.119 ; -12.973,-1.119 -12.542,-0.688 ; -12.549,-1.543 -12.118,-1.112 ; -10.742,1.112 -10.311,1.543 ; -10.318,0.688 -9.887,1.119 ; -5.353,-1.119 -4.922,-0.688 ; -4.929,-1.543 -4.498,-1.112 ; -3.122,1.112 -2.691,1.543 ; -2.698,0.688 -2.267,1.119 ; 2.267,-1.119 2.698,-0.688 ; 2.691,-1.543 3.122,-1.112 ; 4.498,1.112 4.929,1.543 ; 4.922,0.688 5.353,1.119 ; 9.887,-1.119 10.318,-0.688 ; 10.311,-1.543 10.742,-1.112 ; 12.118,1.112 12.549,1.543 ; 12.542,0.688 12.973,1.119 ; 17.507,-1.119 17.938,-0.688 ; 17.931,-1.543 18.362,-1.112 ; 19.738,1.112 20.169,1.543 ; 20.162,0.688 20.593,1.119 ; 23,4.9 23.6,4.7 23.6,6 23,5.8 ; -23,-4.7 -23,8 23,8 23,-4.7 -23,-4.7
3D body "DG636-7.62-03P.stp": height 21.55, standoff -4.95, extent -22.85,-4.6 0.59,7.9
3D body "DG636-7.62-03P.stp": height 21.55, standoff -4.95, extent 0.01,-4.6 23.45,7.9

## DG636_7P62_07 [mm] "Terminal Screw, pitch 7.62mm, H 21.5mm"
height 21.5
pads (7):
  round 2 / inner round 2 / far side rect 2.2x3 hole 1.4: 1(-22.86,0)
  round 2 / inner round 2 / far side oval 2.2x3 hole 1.4: 2(-15.24,0) 3(-7.62,0) 4(0,0) 5(7.62,0) 6(15.24,0) 7(22.86,0)
Top Overlay:
  circle w0.2: c22.86,0 r2
  circle w0.2: c15.24,0 r2
  circle w0.2: c7.62,0 r2
  circle w0.2: c0,0 r2
  circle w0.2: c-7.62,0 r2
  circle w0.2: c-15.24,0 r2
  circle w0.2: c-22.86,0 r2
  rectangle: 20.77,7.4 24.97,8
  rectangle: 13.15,7.4 17.35,8
  rectangle: 5.53,7.4 9.73,8
  rectangle: -2.09,7.4 2.11,8
  rectangle: -9.71,7.4 -5.51,8
  rectangle: -17.33,7.4 -13.13,8
  rectangle: -24.95,7.4 -20.75,8
  lines w0.2: -26.8,-2.9 26.8,-2.9 27.4,-2.7 27.4,-4 26.8,-3.8 ; -26.8,-2 26.8,-2 ; -26.8,4.8 26.8,4.8 ; -24.403,-1.119 -23.972,-0.688 ; -23.979,-1.543 -23.548,-1.112 ; -22.172,1.112 -21.741,1.543 ; -21.748,0.688 -21.317,1.119 ; -16.783,-1.119 -16.352,-0.688 ; -16.359,-1.543 -15.928,-1.112 ; -14.552,1.112 -14.121,1.543 ; -14.128,0.688 -13.697,1.119 ; -9.163,-1.119 -8.732,-0.688 ; -8.739,-1.543 -8.308,-1.112 ; -6.932,1.112 -6.501,1.543 ; -6.508,0.688 -6.077,1.119 ; -1.543,-1.119 -1.112,-0.688 ; -1.119,-1.543 -0.688,-1.112 ; 0.688,1.112 1.119,1.543 ; 1.112,0.688 1.543,1.119 ; 6.077,-1.119 6.508,-0.688 ; 6.501,-1.543 6.932,-1.112 ; 8.308,1.112 8.739,1.543 ; 8.732,0.688 9.163,1.119 ; 13.697,-1.119 14.128,-0.688 ; 14.121,-1.543 14.552,-1.112 ; 15.928,1.112 16.359,1.543 ; 16.352,0.688 16.783,1.119 ; 21.317,-1.119 21.748,-0.688 ; 21.741,-1.543 22.172,-1.112 ; 23.548,1.112 23.979,1.543 ; 23.972,0.688 24.403,1.119 ; 26.8,4.9 27.4,4.7 27.4,6 26.8,5.8 ; -26.8,-4.7 -26.8,8 26.8,8 26.8,-4.7 -26.8,-4.7
3D body "DG636-7.62-02P.stp": height 21.55, standoff -4.95, extent 11.44,-4.6 27.26,7.9
3D body "DG636-7.62-02P.stp": height 21.55, standoff -4.95, extent -26.66,-4.6 -10.84,7.9
3D body "DG636-7.62-03P.stp": height 21.55, standoff -4.95, extent -11.42,-4.6 12.02,7.9